# Altium footprint library O_JonF_DaveL.PcbLib: 331 footprints (part 11 of 21)
Each footprint in its own frame and in the unit in brackets; x right, y up, seen from the top. Pads: shape width x height; smd on the part's side, far side on the other; paste and mask are expansions set on the pad; w line width, h text height; cw(c..) or ccw(c..) is an arc to the next point about the centre after c.
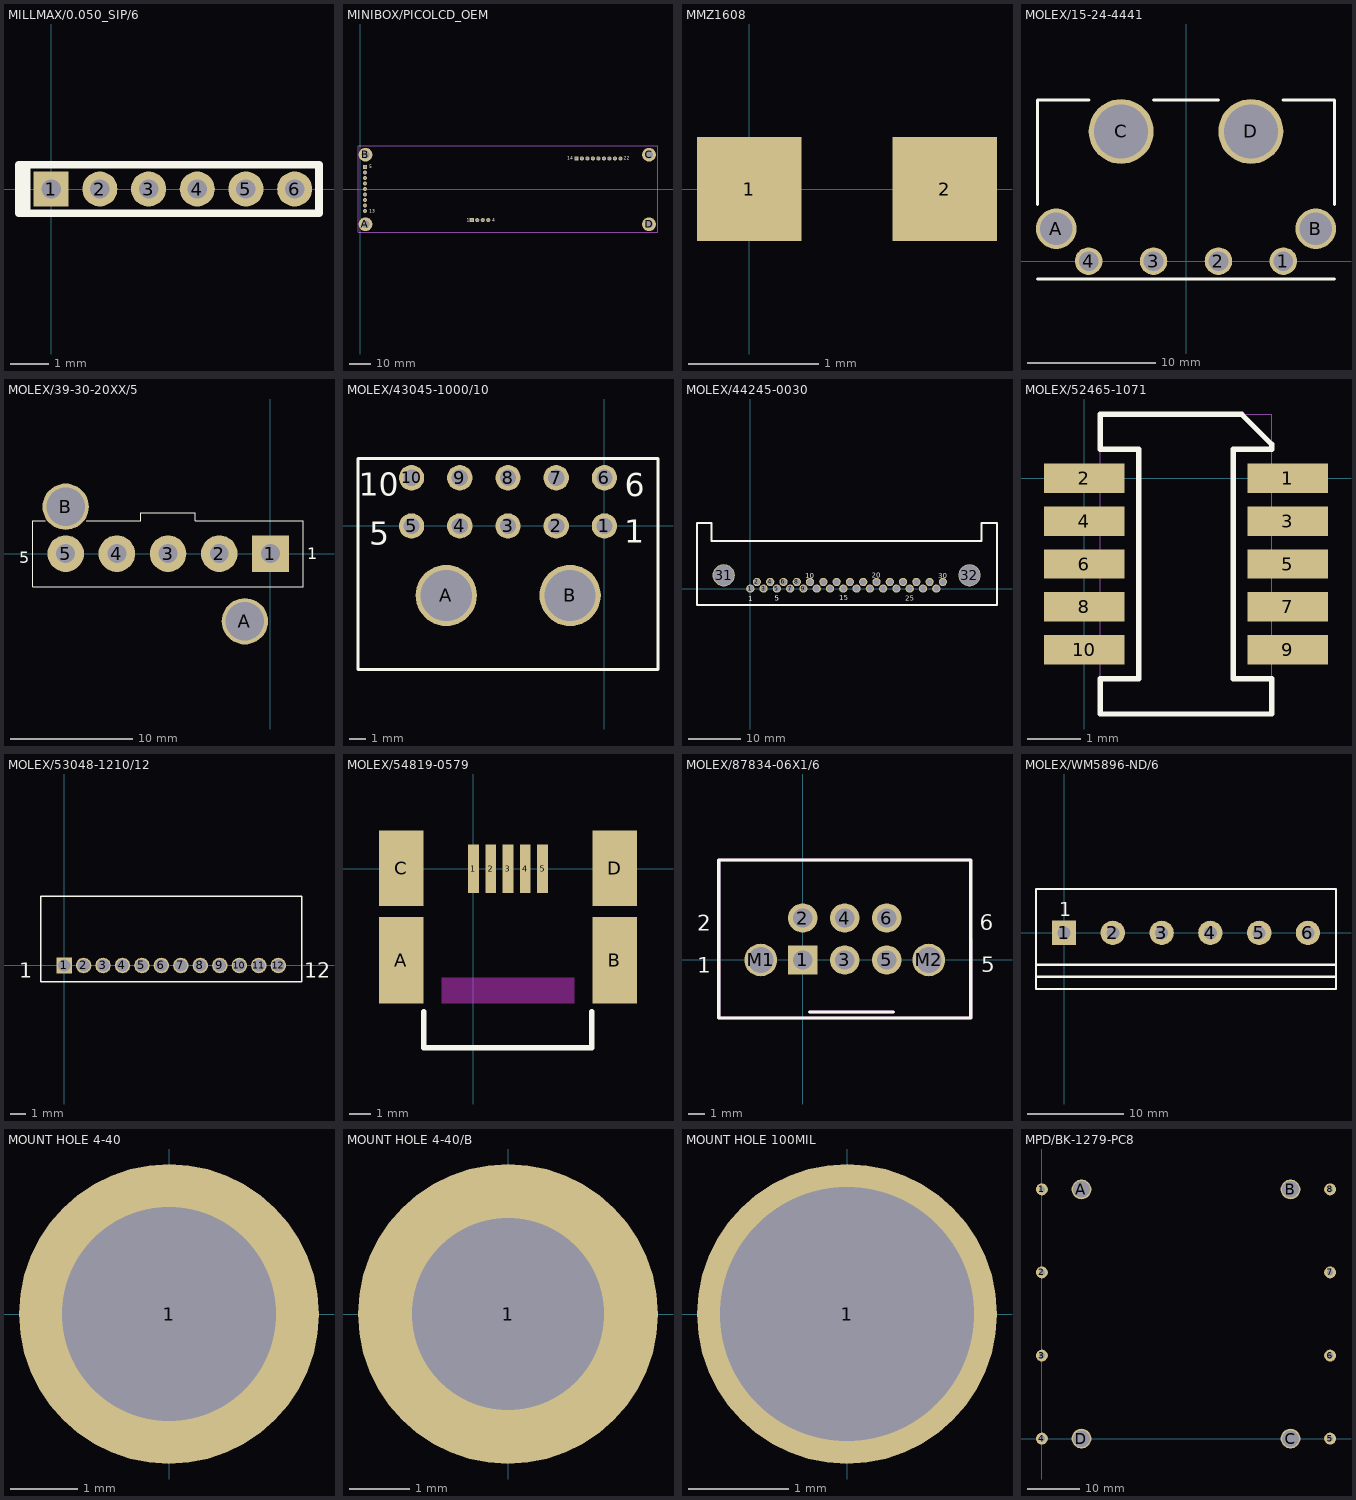
[diagram p10: the footprints below, top view; thin cyan lines are the x and y axes]

## MILLMAX/0.050_SIP/6 [mil]
pads (6):
  rect 36x36 / inner round 36 / far side rect 36x36 hole 20: 1(0,0)
  round 36 hole 20: 2(50,0) 3(100,0) 4(150,0) 5(200,0) 6(250,0)
Top Overlay:
  lines w8: -25,-25 -33,-25 -33,25 -25,25 ; -25,-25 -25,25 ; -25,-25 275,-25 275,25 -25,25

## MINIBOX/PICOLCD_OEM [mil] "PicoLCD Sideshow OEM module"
height 669.29
pads (26):
  rect 74x74 hole 44: 1(2024,-565) 5(88,400) 14(3923,555)
  round 74 hole 44: 2(2124,-565) 3(2224,-565) 4(2324,-565) 6(88,300) 7(88,200) 8(88,100) 9(88,0) 10(88,-100) 11(88,-200) 12(88,-300) 13(88,-400) 15(4023,555) 16(4123,555) 17(4223,555) 18(4323,555) 19(4423,555) 20(4523,555) 21(4623,555) 22(4723,555)
  round 250 hole 141: A(96,-640) B(96,622) C(5242,622) D(5242,-640)
Top Overlay:
  text "14" at 3760,528 h60
  text "22" at 4785,528 h60
  text "1" at 1930,-595 h60
  text "4" at 2395,-595 h60
  text "13" at 160,-430 h60
  text "5" at 160,375 h60
Bottom Overlay:
  text "5" at 200,370 h60
  text "13" at 250,-430 h60
  text "4" at 2430,-600 h60
  text "1" at 1950,-600 h60
  text "22" at 4875,528 h60
  text "14" at 3850,528 h60
Mechanical 1:
  lines w1: -40,-784 -40,784 5405,784 5405,-784 -40,-784
  text "LCD" at 2155,-280 h500

## MMZ1608 [mm]
pads (2):
  rect 0.8x0.8 smd: 1(0,0) 2(1.5,0)

## MOLEX/15-24-4441 [mil] "5.08mm (.200\") Pitch Disk Drive Power Connection System Header, Right Angle"
height 325.98
pads (8):
  round 85 hole 61: 1(300,0) 2(100,0) 3(-100,0) 4(-300,0)
  round 125 hole 101: A(-400,100) B(400,100)
  round 200 hole 167: C(-200,400) D(200,400)
Top Overlay:
  lines w10: -458,-55 458,-55 ; -458,175 -458,497 -300,497 ; -100,497 100,497 ; 300,497 458,497 458,175

## MOLEX/39-30-20XX/5 [mm]
pads (7):
  rect 3x3 / inner round 3 / far side rect 3x3 hole 1.55: 1(0,0)
  round 3 hole 1.55: 2(-4.2,0) 3(-8.4,0) 4(-12.6,0) 5(-16.8,0)
  round 3.8 hole 3.175: A(-2.1,-5.55) B(-16.8,3.85)
Top Overlay:
  lines w0.04: -18.481,2.7 -19.503,2.7 -19.503,-2.7 2.705,-2.7 2.705,2.7 -6.154,2.7 -6.154,3.344 -10.66,3.344 -10.66,2.7 -15.11,2.7
  text "1" at 3.029,-0.472 h0.95
  text ".Designator" at -2.384,-9.639 h0.95
  text "5" at -20.629,-0.798 h0.95
Mechanical 1:
  text ".Designator" at -2.384,-9.638 h0.95
  text ".Comment" at -2.33,-10.959 h0.95
  text ".Pattern" at -2.222,-13.762 h0.95

## MOLEX/43045-1000/10 [mil]
pads (12):
  round 62 hole 40: 1(0,0) 2(-118,0) 3(-236,0) 4(-354,0) 5(-472,0) 6(0,118) 7(-118,118) 8(-236,118) 9(-354,118) 10(-472,118)
  round 150 hole 125: A(-387,-170) B(-84,-170)
Top Overlay:
  lines w8: -603,-351 131,-351 131,165 -603,165 -603,-351
  text "6" at 50,73 h56.25
  text "5" at -575,-46 h56.25
  text "10" at -601,74 h56.25
  text "1" at 49,-41 h56.25
  text ".Designator" at -599,186.5 h56.25
Mechanical 1:
  text ".Designator" at 0,337.5 h56.25
  text ".Comment" at 0,225 h56.25
  text ".Pattern" at 0,0 h56.25

## MOLEX/44245-0030 [mil]
pads (32):
  round 62 / inner round 70 / far side round 62 hole 45: 1(0,0) 2(50,50) 3(100,0) 4(150,50) 5(200,0) 6(250,50) 7(300,0) 8(350,50) 9(400,0) 10(450,50) 11(500,0) 12(550,50) 13(600,0) 14(650,50) 15(700,0) 16(750,50) 17(800,0) 18(850,50) 19(900,0) 20(950,50) 21(1000,0) 22(1050,50) 23(1100,0) 24(1150,50) 25(1200,0) 26(1250,50) 27(1300,0) 28(1350,50) 29(1400,0) 30(1450,50)
  round 167 / inner round 177 / far side round 167 hole 156: 31(-200,100) 32(1650,100)
Top Overlay:
  lines w15: -401,-124 1857,-124 1857,494 1741,494 1741,359 -291,359 -291,494 -401,494 -401,-124
  text ".Designator" at -400,-262.5 h37.5
  text "1" at -15,-94 h37.5
  text "5" at 185,-90 h37.5
  text "5" at 185,-90 h37.5
  text "10" at 415,79 h37.5
  text "15" at 670,-88 h37.5
  text "20" at 914,81 h37.5
  text "25" at 1166,-90 h37.5
  text "30" at 1416,78 h37.5
Mechanical 1:
  text ".Pattern" at -400,-600 h37.5
  text ".Comment" at -400,-375 h37.5
  text ".Designator" at -400,-262.5 h37.5

## MOLEX/52465-1071 [mm]
pads (10):
  rect 1.5x0.55 smd: 1(3.8,0) 2(0,0) 3(3.8,-0.8) 4(0,-0.8) 5(3.8,-1.6) 6(0,-1.6) 7(3.8,-2.4) 8(0,-2.4) 9(3.8,-3.2) 10(0,-3.2)
Top Overlay:
  lines w0.1: 0.3,-4.4 0.3,-3.74 1.015,-3.74 1.015,0.54 0.3,0.54 0.3,1.195 2.94,1.195 3.5,0.635 3.5,0.54 2.785,0.54 2.785,-3.74 3.5,-3.74 3.5,-4.4 0.3,-4.4
  text ".Designator" at 0.395,1.145 h1.5
Mechanical 1:
  lines w0.001: 0.3,-4.4 0.3,1.2 3.5,1.2 3.5,-4.4 0.3,-4.4
  text ".Pattern" at 0,0 h1.5
  text ".Comment" at 0,6 h1.5
  text ".Designator" at 0,9 h1.5

## MOLEX/53048-1210/12 [mm]
pads (12):
  rect 1x1 hole 0.8: 1(0,0)
  round 1 hole 0.8: 2(1.25,0) 3(2.5,0) 4(3.75,0) 5(5,0) 6(6.25,0) 7(7.5,0) 8(8.75,0) 9(10,0) 10(11.25,0) 11(12.5,0) 12(13.75,0)
Top Overlay:
  lines w0.1: -1.5,-1.05 15.25,-1.05 15.25,4.45 -1.5,4.45 -1.5,-1.05
  text ".Designator" at 3.871,2.047 h0.95
  text "1" at -2.893,-0.778 h0.95
  text "12" at 15.409,-0.778 h0.95
Mechanical 1:
  text ".Designator" at 9.871,-2.953 h0.95
  text ".Comment" at -1.482,-2.683 h0.95
  text ".Pattern" at -0.846,-3.912 h0.57
  text "1" at -2.893,-0.778 h0.95
  text "12" at 15.409,-0.778 h0.95

## MOLEX/54819-0579 [mm]
pads (9):
  rect 0.5x2.25 smd: 1(0,0) 2(0.8,0) 3(1.6,0) 4(2.4,0) 5(3.2,0)
  rect 2.05x4 smd: A(-3.325,-4.225) B(6.525,-4.225)
  rect 2.05x3.5 smd: C(-3.325,0.025) D(6.525,0.025)
Top Overlay:
  lines w0.254: -2.286,-6.604 -2.286,-8.255 5.461,-8.255 5.461,-6.604
Keep-Out Layer:
  rectangle: -1.473,-6.223 4.674,-5.023

## MOLEX/87834-06X1/6 [mil]
pads (8):
  rect 70x70 hole 46: 1(0,0)
  round 70 hole 46: 2(0,100) 3(100,0) 4(100,100) 5(200,0) 6(200,100)
  round 78 hole 61: M1(-100,0) M2(300,0)
Top Overlay:
  lines w8: 16,-124 216,-124 ; -200,-138 -200,238 400,238 400,-138 -200,-138
  text "1" at -250.88,-30.63 h37.5
  text "2" at -251.88,69.37 h37.5
  text "5" at 425.12,-28.63 h37.5
  text "6" at 421.22,71.37 h37.5
  text ".Designator" at -199.95,250.88 h37.5
Mechanical 1:
  lines w8: 16,-124 216,-124 ; -200,-138 400.37,-138 399.37,238 -200,238 -200,-138
  text ".Pattern" at -213.15,194.62 h22.5
  text "1" at -139.88,-31.63 h37.5
  text "2" at -140.88,68.37 h37.5
  text "5" at 315.12,-26.63 h37.5
  text "6" at 311.22,73.37 h37.5
  text ".Designator" at -119.95,251.88 h37.5
  text ".Comment" at -205.33,124.87 h37.5

## MOLEX/WM5896-ND/6 [mil]
pads (6):
  rect 100x100 hole 53: 1(0,0)
  round 100 hole 53: 2(200,0) 3(400,0) 4(600,0) 5(800,0) 6(1000,0)
Top Overlay:
  lines w10: -115,-180 1115,-180 ; -115,-130 1115,-130 ; -115,-230 -115,180 1115,180 1115,-230 -115,-230
  text "1" at -19,69 h56.25
Mechanical 1:
  text "Insert wires from this side" at 250,-300 h20

## MOUNT HOLE 4-40 [mil]
pads (1):
  round 175 hole 125: 1(0,0)
Top Overlay:
  text ".Designator" at 0,337.5 h56.25
Mechanical 1:
  text ".Pattern" at 0,0 h56.25
  text ".Designator" at 0,337.5 h56.25
  text ".Comment" at 0,225 h56.25

## MOUNT HOLE 4-40/B [mil]
pads (1):
  round 197 hole 126: 1(0,0)
Top Overlay:
  text ".Designator" at 0,337.5 h56.25
Mechanical 1:
  text ".Pattern" at 0,0 h56.25
  text ".Comment" at 0,225 h56.25
  text ".Designator" at 0,337.5 h56.25

## MOUNT HOLE 100MIL [mil]
pads (1):
  round 118 hole 100: 1(0,0)
Top Overlay:
  text ".Designator" at 0,337.5 h56.25
Mechanical 1:
  text ".Designator" at 0,337.5 h56.25
  text ".Comment" at 0,225 h56.25
  text ".Pattern" at 0,0 h56.25

## MPD/BK-1279-PC8 [mil]
pads (12):
  round 90 hole 47: 1(0,1890) 2(0,1260) 3(0,630) 4(0,0) 5(2185,0) 6(2185,630) 7(2185,1260) 8(2185,1890)
  round 150 hole 126: A(300,1890) B(1885,1890) C(1885,0) D(300,0)
Top Overlay:
  text ".Designator" at 0,337.5 h56.25
Mechanical 1:
  text ".Designator" at 0,337.5 h56.25
  text ".Comment" at 0,225 h56.25
  text ".Pattern" at 0,0 h56.25